# Altium schematic symbol library Test.SchLib: 139 symbols
Pins are listed as number, name and electrical type; pins without a type are passive.

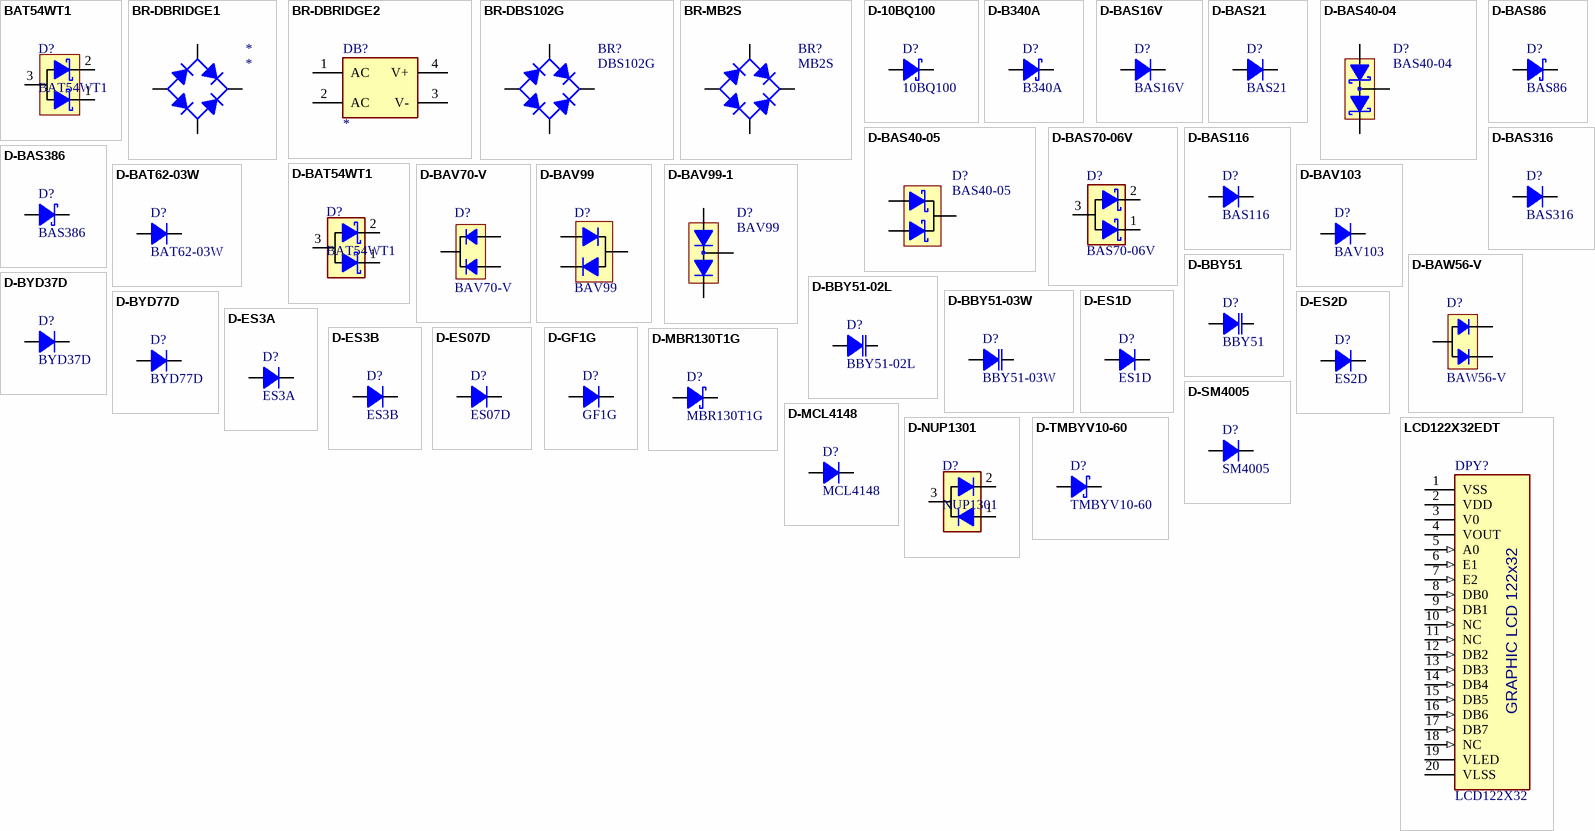
[diagram p0: symbols BAT54WT1 to LCD122X32EDT]

## BAT54WT1
designator D?
Schottky Barier Diodes; Manufacturer: On Semiconductor; Manufacturer No: BAT54WT1G; Sort: 410; Tech: SMDR; Package: SOT233; Price: 0
signal-integrity model Model Name (Model Description)
pins: 1 C1, 2 C2, 3 A1A2

## BR-DBRIDGE1
designator *
General purpose diode bridge; Sort: 430; Tech: SMDR; Price: 0
signal-integrity model Model Name (Model Description)
pins: 1 A, 2 C, 3 K, 4 C

## BR-DBRIDGE2
designator DB?
General purpose diode bridge; Sort: 430; Tech: SMDR; Price: 0
pins: 1 AC, 2 AC, 3 V-, 4 V+

## BR-DBS102G
designator BR?, comment DBS102G
Bridge rectifier 100V 1A SMD; Comment2: 100V 1A; Sort: 430; Tech: SMDR; Package: BRSMD; Price: 0
signal-integrity model Model Name (Model Description)
footprint BRDBS (Bridge rectifier DBS)
pins: 1 AC1, 2 AC2, 3 +, 4 -

## BR-MB2S
designator BR?, comment MB2S
Bridge rectifier 200V 0.5A SMD; Manufacturer: Vishay; Sort: 430; Tech: SMDR; Package: TO-269AA  MBS; Manufacturer No: MB2S; Comment2: 200V 0.5A; Price: 0
signal-integrity model Model Name (Model Description)
footprint BRTO269AA (Bridge rectifier MBS)
pins: 1 AC1, 2 AC2, 3 +, 4 -

## D-10BQ100
designator D?, comment 10BQ100
Schottky diode; Manufacturer: Vishay; Comment2: 1A 100V; Sort: 412; Tech: SMDR; Package: Diode SMB; Manufacturer No: 10BQ100; Price: 0
signal-integrity model Model Name (Model Description)
footprint DSMB-N (DIODE SMB normal)
pins: 1 C, 2 A

## D-B340A
designator D?, comment B340A
Schottky diode; Manufacturer: Vishay; Comment2: 3A 40V; Sort: 412; Tech: SMDR; Package: Diode SMA; Manufacturer No: B340A; Price: 0
signal-integrity model Model Name (Model Description)
footprint DSMA-N (DIODE SMA normal)
pins: 1 C, 2 A

## D-BAS16V
designator D?, comment BAS16V
General purpose diode; Manufacturer: Vishay; Manufacturer No: BAS16-V; Comment2: 100V 150mA; Sort: 410; Tech: SMDR; Package: SOT23; Price: 0
signal-integrity model Model Name (Model Description)
footprint SOT23-1
pins: 1 A, 3 C

## D-BAS21
designator D?, comment BAS21
General purpose diode; Comment2: 250V 200mA; Sort: 410; Tech: SMDR; Manufacturer No: BAS21; Package: SOT23; Price: 0
signal-integrity model Model Name (Model Description)
footprint SOT23-1
pins: 1 A, 3 C

## D-BAS40-04
designator D?, comment BAS40-04
Dual schottky diode A-CA-C; Manufacturer: Vishay; Comment2: 40V 200mA; Sort: 410; Tech: SMDR; Manufacturer No: BAS40-04; Package: SOT23; Price: 0
signal-integrity model Model Name (Model Description)
footprint SOT23-1
pins: 1 A1, 2 C2, 3 C1A2

## D-BAS40-05
designator D?, comment BAS40-05
Dual schottky diode A-CC-A; Manufacturer: Vishay; Comment2: 40V 200mA; Sort: 410; Tech: SMDR; Manufacturer No: BAS40-05; Package: SOT23; Price: 0
signal-integrity model Model Name (Model Description)
footprint SOT23-1
pins: 1 A1, 2 A2, 3 C1C2

## D-BAS70-06V
designator D?, comment BAS70-06V
Dual schottky diode C-AA-C; Manufacturer: Vishay; Manufacturer No: BAS70-06-V; Comment2: 70V  70mA; Sort: 412; Tech: SMDR; Package: SOT23; Price: 0
signal-integrity model Model Name (Model Description)
footprint SOT23-1
pins: 1 C1, 2 C2, 3 A1A2

## D-BAS86
designator D?, comment BAS86
Schottky diode; Comment2: 0.2A 50V; Sort: 410; Tech: SMDR; Package: Diode SOD80C; Manufacturer No: BAS86; Price: 0
signal-integrity model Model Name (Model Description)
footprint DSOD80-N (Diode SOD80)
pins: 1 C, 2 A

## D-BAS116
designator D?, comment BAS116
General purpose diode; Comment2: 80V 250mA 370mW; Sort: 410; Tech: SMDR; Manufacturer No: BAS116; Package: SOT23; Price: 0
signal-integrity model Model Name (Model Description)
footprint SOT23-1
pins: 1 A, 3 C

## D-BAS316
designator D?, comment BAS316
General purpose diode; Manufacturer: NXP; Comment2: 100V 150mA; Sort: 410; Tech: SMDR; Manufacturer No: BAS316; Package: SOD323; Price: 0
signal-integrity model Model Name (Model Description)
footprint SOD232 (SOD323 diode)
pins: 1 C, 2 A

## D-BAS386
designator D?, comment BAS386
Schottky diode uMelf; Manufacturer: Vishay; Comment2: 0.2A 50V; Sort: 410; Tech: SMDR; Package: Micro MELF; Manufacturer No: BAS386; Price: 0
signal-integrity model Model Name (Model Description)
footprint UMELF (micro melf  D1.2x2.0mm)
pins: 1 C, 2 A

## D-BAT54WT1
designator D?, comment BAT54WT1
Schottky Barier Dual Diodes C-AA-C; Manufacturer: On Semiconductor; Manufacturer No: BAT54WT1G; Sort: 410; Tech: SMDR; Package: SOT323; Price: 0
signal-integrity model Model Name (Model Description)
footprint SOT323N (SOT323 medium density (SC70))
pins: 1 C1, 2 C2, 3 A1A2

## D-BAT62-03W
designator D?, comment BAT62-03W
General purpose diode; Manufacturer: Infineon Technologies; Comment2: 40V 20mA; Sort: 410; Tech: SMDR; Manufacturer No: BAT62-03W; Package: SOT23; Price: 0
signal-integrity model Model Name (Model Description)
footprint SOD323 (SOD323 diode)
pins: 1 A, 3 C

## D-BAV70-V
designator D?, comment BAV70-V
Dual diode CC; Manufacturer: Vishay; Comment2: 70V  250mA; Sort: 410; Tech: SMDR; Manufacturer No: BAV70-V; Package: SOT23; Price: 0
signal-integrity model Model Name (Model Description)
footprint SOT23-1
pins: 1 C1, 2 C2, 3 A1A2

## D-BAV99
designator D?, comment BAV99
Dual diode C-AC-A; Manufacturer: Vishay; Comment2: 100V 150mA; Sort: 410; Tech: SMDR; Manufacturer No: BAV99; Package: SOT23; Price: 0
signal-integrity model Model Name (Model Description)
footprint SOT23-1
pins: 1 C1, 2 C2, 3 A1A2

## D-BAV99-1
designator D?, comment BAV99
Dual diode C-AC-A; Manufacturer: Vishay; Comment2: 100V 150mA; Sort: 410; Tech: SMDR; Manufacturer No: BAV99; Package: SOT23; Price: 0
signal-integrity model Model Name (Model Description)
footprint SOT23-1
pins: 1 A1, 2 C2, 3 C1A2

## D-BAV103
designator D?, comment BAV103
Switching diode; Comment2: 0.2A 200V 50ns; Sort: 410; Tech: SMDR; Package: Diode SOD80C; Manufacturer No: BAV103; Price: 0
signal-integrity model Model Name (Model Description)
footprint DSOD80-N (Diode SOD80)
pins: 1 C, 2 A

## D-BAW56-V
designator D?, comment BAW56-V
Dual diode CA; Manufacturer: Vishay; Comment2: 70V  250mA; Sort: 410; Tech: SMDR; Manufacturer No: BAW56-V; Package: SOT23; Price: 0
signal-integrity model Model Name (Model Description)
footprint SOT23-1
pins: 1 C1, 2 C2, 3 A1A2

## D-BBY51
designator D?, comment BBY51
Varicap diode; Manufacturer: Infineon, Digikey; Manufacturer No: BBY 51 E6327-ND; Comment2: 7V 20mA 3.7pF; Sort: 410; Tech: SMDR; Package: SOT23; Price: 0
signal-integrity model Model Name (Model Description)
footprint SOT23-1
pins: 1 A, 3 C

## D-BBY51-02L
designator D?, comment BBY51-02L
Varicap diode; Manufacturer: Infineon, Digikey; Manufacturer No: BBY 51-02L E6327; Comment2: 7V 20mA 3.7pF; Sort: 410; Tech: SMDR; Package: TSLP-2-1; Price: 0
signal-integrity model Model Name (Model Description)
footprint TSLP-2-1 (TSLP-2-1 diode)
pins: 1 A, 3 C

## D-BBY51-03W
designator D?, comment BBY51-03W
Varicap diode; Manufacturer: Infineon, Digikey; Manufacturer No: BBY 51-03W E6327-ND; Comment2: 7V 20mA 3.7pF; Sort: 410; Tech: SMDR; Package: SOD323; Price: 0
signal-integrity model Model Name (Model Description)
footprint SOD323 (SOD323 diode)
pins: 1 A, 3 C

## D-BYD37D
designator D?, comment BYD37D
Fast recovery diode; Manufacturer: NXP; Comment2: 1.5A 200V 250ns; Sort: 410; Tech: SMDR; Package: Diode SOD87; Manufacturer No: BYD37D; Price: 0
signal-integrity model Model Name (Model Description)
footprint SOD87 (MELF Diode, 2-Leads, Body 3,5x2,0mm)
pins: 1 C, 2 A

## D-BYD77D
designator D?, comment BYD77D
Fast recovery diode; Manufacturer: NXP; Comment2: 2A 200V 25ns; Sort: 410; Tech: SMDR; Package: Diode SOD87; Manufacturer No: BYD77D; Price: 0
signal-integrity model Model Name (Model Description)
footprint SOD87 (MELF Diode, 2-Leads, Body 3,5x2,0mm)
pins: 1 C, 2 A

## D-ES1D
designator D?, comment ES1D
Fast recovery diode; Manufacturer: Vishay; Comment2: 1A 200V 30ns; Sort: 410; Tech: SMDR; Package: Diode SMA; Manufacturer No: ES1D; Price: 0
signal-integrity model Model Name (Model Description)
footprint DSMA-N (DIODE SMA normal)
pins: 1 C, 2 A

## D-ES2D
designator D?, comment ES2D
Fast recovery diode; Manufacturer: Vishay; Comment2: 2A 200V 30ns; Sort: 410; Tech: SMDR; Package: Diode SMB; Manufacturer No: ES2D; Price: 0
signal-integrity model Model Name (Model Description)
footprint DSMB-N (DIODE SMB normal)
pins: 1 C, 2 A

## D-ES3A
designator D?, comment ES3A
Fast recovery diode; Manufacturer: Vishay; Manufacturer No: ES3A-E3/57T; Comment2: 3.0A 0.9V 20ns; Sort: 410; Tech: SMDR; Package: DO-214AB; Price: 0
signal-integrity model Model Name (Model Description)
footprint SOD87 (MELF Diode, 2-Leads, Body 3,5x2,0mm)
pins: 1 C, 2 A

## D-ES3B
designator D?, comment ES3B
Fast recovery diode; Manufacturer: Vishay; Manufacturer No: ES3B-E3/57T; Comment2: 3.0A 100V 20ns; Sort: 410; Tech: SMDR; Package: DO-214AB; Price: 0
signal-integrity model Model Name (Model Description)
footprint DSMC-N (DIODE SMC normal DO-214AB)
pins: 1 C, 2 A

## D-ES07D
designator D?, comment ES07D
Ultrafast recovery diode; Manufacturer: Vishay; Manufacturer No: ES07D-GS08; Comment2: 0.5A 200V 25ns; Sort: 410; Tech: SMDR; Package: Diode SMF; Price: 0
signal-integrity model Model Name (Model Description)
footprint DSMF-N (Diode SMF)
pins: 1 C, 2 A

## D-GF1G
designator D?, comment GF1G
General purpose diode 400V 1A; Manufacturer: Vishay, Farnell; Manufacturer No: GF1G, 9549595; Sort: 410; Tech: SMDR; Package: DO-214AC; Price: 0
signal-integrity model Model Name (Model Description)
footprint DO214BA (Diode SMA DO214BA)
pins: 1 C, 2 A

## D-MBR130T1G
designator D?, comment MBR130T1G
Schottky diode; Manufacturer: ON Semi; Comment2: 1A 30V; Sort: 412; Tech: SMDR; Package: Diode SOD123; Manufacturer No: MBR130T1G; Price: 0
signal-integrity model Model Name (Model Description)
footprint SOD123 (2-Leads, Body 1,6x2,7mm (max), IPC Medium Density)
pins: 1 C, 2 A

## D-MCL4148
designator D?, comment MCL4148
General purpose diode; Manufacturer: Vishay; Comment2: 100V 150mA; Sort: 410; Tech: SMDR; Manufacturer No: MCL4148; Package: Micro Melf; Price: 0
signal-integrity model Model Name (Model Description)
footprint UMELF (micro melf  D1.2x2.0mm)
pins: 1 C, 2 A

## D-NUP1301
designator D?, comment NUP1301
Low Cap. Diode Array for ESD Protection in a Single Data Line; Manufacturer: On Semiconductor; Manufacturer No: NUP1301ML3T1G; Comment2: 0.9 pF, 70V, 0.215A; Sort: 410; Tech: SMDR; Package: SOT23; Price: 0
signal-integrity model Model Name (Model Description)
footprint SOT23-1
pins: 1 C1, 2 C2, 3 A1A2

## D-SM4005
designator D?, comment SM4005
General purpose diode; Manufacturer: Diotec; Comment2: 600V 1A; Sort: 410; Tech: SMDR; Package: DO213AB; Manufacturer No: SM4005; Price: 0
signal-integrity model Model Name (Model Description)
footprint DO213AB (Diode MELF DO213AB)
pins: 1 C, 2 A

## D-TMBYV10-60
designator D?, comment TMBYV10-60
Schottky diode; Manufacturer: ST Microelectronics; Comment2: 1A 60V; Sort: 412; Tech: SMDR; Package: Diode SMA; Manufacturer No: TMBYV10-60; Price: 0
signal-integrity model Model Name (Model Description)
footprint D-MELF (Diode MELF glass)
pins: 1 C, 2 A

## LCD122X32EDT
designator DPY?, comment LCD122X32  (net tie)
LCD 122x32 EDT graphical; Sort: 710; Tech: SMDR; Price: 0
pins: 1 VSS (power), 2 VDD (power), 3 V0 (power), 4 VOUT (power), 5 A0 (in), 6 E1 (in), 7 E2 (in), 8 DB0 (in), 9 DB1 (in), 10 NC (in), 11 NC (in), 12 DB2 (in), 13 DB3 (in), 14 DB4 (in), 15 DB5 (in), 16 DB6 (in), 17 DB7 (in), 18 NC (in), 19 VLED (power), 20 VLSS (power)
text: GRAPHIC LCD 122x32

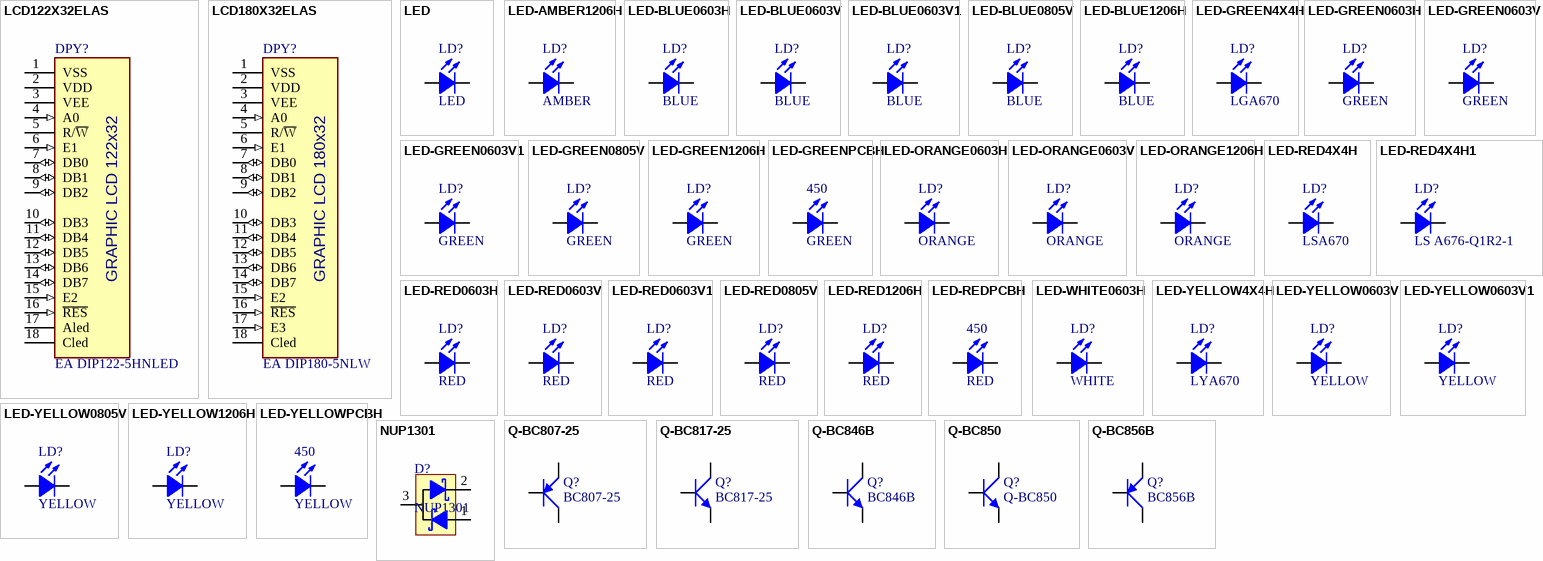
[diagram p1: symbols LCD122X32ELAS to Q-BC856B]

## LCD122X32ELAS
designator DPY?, comment EA DIP122-5HNLED
LCD 122x32 ElAss graphical DIP YGLED; Manufacturer: Electronic Assembly; Sort: 710; Tech: SMDR; Manufacturer No: EA DIP122-5HNLED; Price: 0
footprint LCD122X32ELAS1
footprint LCD122X32ELAS1NOPIN
pins: 1 VSS (power), 2 VDD (power), 3 VEE (power), 4 A0 (in), 5 R/~{W} (power), 6 E1 (in), 7 DB0 (io), 8 DB1 (io), 9 DB2 (io), 10 DB3 (io), 11 DB4 (io), 12 DB5 (io), 13 DB6 (io), 14 DB7 (io), 15 E2 (in), 16 ~{RES} (in), 17 Aled (power), 18 Cled (power)
text: GRAPHIC LCD 122x32

## LCD180X32ELAS
designator DPY?, comment EA DIP180-5NLW
LCD 180x32 ElAss graphical DIP YGLED; Manufacturer: Electronic Assembly; Sort: 710; Tech: SMDR; Manufacturer No: EA DIP180-5NLW; Price: 0
footprint LCD180X32ELAS1
pins: 1 VSS (power), 2 VDD (power), 3 VEE (power), 4 A0 (in), 5 R/~{W} (power), 6 E1 (in), 7 DB0 (io), 8 DB1 (io), 9 DB2 (io), 10 DB3 (io), 11 DB4 (io), 12 DB5 (io), 13 DB6 (io), 14 DB7 (io), 15 E2 (in), 16 ~{RES} (in), 17 E3 (in), 18 Cled (power)
text: GRAPHIC LCD 180x32

## LED
designator LD?
General purpose LED; Sort: 450; Tech: SMDR; Price: 0
footprint LED-0 (Typical INFRARED GaAs LED; 2 Leads)
simulation model LED0 (Diode)
pins: 1 C, 2 A

## LED-AMBER1206H
designator LD?, comment AMBER
LED amber HSMA side; Manufacturer: Agilent; Manufacturer No: HSMA-C110; Sort: 450; Tech: SMDR; Package: Led Chip 1206 Side; Price: 1.44
simulation model LED0 (Diode)
footprint LED1206HA (LED chip C110 3.2x1.0x1.5mm Side Amber)
pins: 1 C, 2 A

## LED-BLUE0603H
designator LD?, comment BLUE
LED blue 0603 side; Manufacturer: Avago, Farnell; Manufacturer No: HSMR-C120, 1058369; Sort: 450; Tech: SMDR; Package: Led Chip 0603 Side; Price: 0,6
simulation model LED0 (Diode)
footprint LED0603HB (LED chip 0603 1.6x1.0x0.6mm horizontal Blue)
pins: 1 C, 2 A

## LED-BLUE0603V
designator LD?, comment BLUE
LED blue HSMB vertical; Manufacturer: Avago, Farnell; Manufacturer No: HSMR-C190, 1652108; Comment2: 3.8V 20mA 6mcd 92mW; Sort: 450; Tech: SMDR; Package: Led Chip 0603; Price: 0.45
simulation model LED0 (Diode)
footprint LEDBLUEC190 (LED chip C190 1.6x0.8x0.8mm vertical)
pins: 1 C, 2 A

## LED-BLUE0603V1
designator LD?, comment BLUE
LED blue 0603; Manufacturer: Vishay, Farnell; Manufacturer No: TLMB1100, 1328305; Sort: 450; Tech: SMDR; Package: Led Chip 0603; Price: 0.7
simulation model LED0 (Diode)
footprint LED0603VB (LED chip 0603 1.6x0.8x0.6mm vertical Blue)
pins: 1 C, 2 A

## LED-BLUE0805V
designator LD?, comment BLUE
LED blue 0805; Sort: 450; Tech: SMDR; Package: 0805; Price: 0
simulation model LED0 (Diode)
footprint LED0805VB (LED 0805 2X1.25mm Blue)
pins: 1 C, 2 A

## LED-BLUE1206H
designator LD?, comment BLUE
LED blue HSMR side; Manufacturer: Agilent; Manufacturer No: HSMR-C110; Sort: 450; Tech: SMDR; Package: Led Chip 1206 Side; Price: 1.44
simulation model LED0 (Diode)
footprint LED1206HB (LED chip C110 3.2x1.0x1.5mm Side Blue)
pins: 1 C, 2 A

## LED-GREEN4X4H
designator LD?, comment LGA670
LED SIDELED 4x4; Manufacturer: Osram; Manufacturer No: LG A670-K1L2-1; Sort: 450; Tech: SMDR; Package: SIDELED 4X4; Price: 0
footprint LED4X4H (Sideled 4x4mm horizontal SMD)
simulation model LED0 (Diode)
pins: 1 C, 2 A

## LED-GREEN0603H
designator LD?, comment GREEN
LED green 0603 side; Manufacturer: Avago, Farnell; Manufacturer No: HSME-C120, 1058360; Sort: 450; Tech: SMDR; Package: Led Chip 0603 Side; Price: 0,22
simulation model LED0 (Diode)
footprint LED0603HG (LED chip 0603 1.6x1.0x0.6mm horizontal Green)
pins: 1 C, 2 A

## LED-GREEN0603V
designator LD?, comment GREEN
LED green HSMG vertical; Manufacturer: Avago, Farnell; Manufacturer No: HSMG-C190, 8554609; Comment2: 2.6V 20mA 15mcd 52mW; Sort: 450; Tech: SMDR; Package: Led Chip 0603; Price: 0.3
simulation model LED0 (Diode)
footprint LEDGREENC190 (LED chip C190 1.6x0.8x0.8mm vertical)
pins: 1 C, 2 A

## LED-GREEN0603V1
designator LD?, comment GREEN
LED green 0603; Manufacturer: Vishay, Farnell; Manufacturer No: TLMP1100, 1328306; Sort: 450; Tech: SMDR; Package: Led Chip 0603; Price: 0.7
simulation model LED0 (Diode)
footprint LED0603VG (LED chip 0603 1.6x0.8x0.6mm vertical Green)
pins: 1 C, 2 A

## LED-GREEN0805V
designator LD?, comment GREEN
LED green 0805; Sort: 450; Tech: SMDR; Package: 0805; Price: 0
simulation model LED0 (Diode)
footprint LED0805VG (LED 0805 2X1.25mm Green)
pins: 1 C, 2 A

## LED-GREEN1206H
designator LD?, comment GREEN
LED green HSMQ side; Manufacturer: Agilent; Manufacturer No: HSMQ-C110; Sort: 450; Tech: SMDR; Package: Led Chip 1206 Side; Price: 1.44
simulation model LED0 (Diode)
footprint LED1206HG (LED chip C110 3.2x1.0x1.5mm Side Green)
pins: 1 C, 2 A

## LED-GREENPCBH
designator 450, comment GREEN
Right angle LED indicator; Manufacturer: Kingbright; Manufacturer No: L-710A8CB/1GD; Sort: 450; Tech: SMDR; Price: 0
simulation model LED0 (Diode)
footprint LEDPCBHKB (Right angle LED indicator 4.6x6.35x7.3mm)
pins: 1 C, 2 A

## LED-ORANGE0603H
designator LD?, comment ORANGE
LED orange 0603 side; Manufacturer: Avago, Farnell; Manufacturer No: HSML-C120, 1058367; Sort: 450; Tech: SMDR; Package: Led Chip 0603 Side; Price: 0,13
simulation model LED0 (Diode)
footprint LED0603HO (LED chip 0603 1.6x1.0x0.6mm horizontal Orange)
pins: 1 C, 2 A

## LED-ORANGE0603V
designator LD?, comment ORANGE
LED orange 0603 vertical; Manufacturer: Avago, Farnell; Manufacturer No: HSMD-C190, 8554552; Sort: 450; Tech: SMDR; Package: Led Chip 0603 Vertical; Price: 0,08
simulation model LED0 (Diode)
footprint LEDORANGEC190 (LED chip C190 1.6x0.8x0.8mm vertical orange)
pins: 1 C, 2 A

## LED-ORANGE1206H
designator LD?, comment ORANGE
LED orange HSMD side; Manufacturer: Agilent; Manufacturer No: HSMD-C110; Sort: 450; Tech: SMDR; Package: Led Chip 1206 Side; Price: 1.44
simulation model LED0 (Diode)
footprint LED1206HO (LED chip C110 3.2x1.0x1.5mm Side Orange)
pins: 1 C, 2 A

## LED-RED4X4H
designator LD?, comment LSA670
LED SIDELED 4x4; Manufacturer: Osram; Manufacturer No: LS A670-J1K2-1; Sort: 450; Tech: SMDR; Package: SIDELED 4X4; Price: 0
footprint LED4X4H (Sideled 4x4mm horizontal SMD)
simulation model LED0 (Diode)
pins: 1 C, 2 A

## LED-RED4X4H1
designator LD?, comment LS A676-Q1R2-1
LED SIDELED 4x4; Manufacturer: Osram; Manufacturer No: Q65110A2259; Comment2: 30mA, 80mW; Sort: 450; Tech: SMDR; Package: SIDELED 4X4; Price: 0
footprint LED4X4H (Sideled 4x4mm horizontal SMD)
simulation model LED0 (Diode)
pins: 1 C, 2 A

## LED-RED0603H
designator LD?, comment RED
LED red 0603 side; Manufacturer: Avago, Farnell; Manufacturer No: HSMC-C120, 1058357; Sort: 450; Tech: SMDR; Package: Led Chip 0603 Side; Price: 0,22
simulation model LED0 (Diode)
footprint LED0603HR (LED chip 0603 1.6x1.0x0.6mm horizontal Red)
pins: 1 C, 2 A

## LED-RED0603V
designator LD?, comment RED
LED red HSMC vertical; Manufacturer: Avago, Farnell; Manufacturer No: HSMC-C190, 8554510; Comment2: 2.4V 25mA 90mcd 60mW; Sort: 450; Tech: SMDR; Package: Led Chip 0603; Price: 0.3
simulation model LED0 (Diode)
footprint LEDREDC190 (LED chip C190 1.6x0.8x0.8mm vertical)
pins: 1 C, 2 A

## LED-RED0603V1
designator LD?, comment RED
LED red 0603; Manufacturer: Vishay, Farnell; Manufacturer No: TLMS1100, 1328309; Sort: 450; Tech: SMDR; Package: Led Chip 0603; Price: 0.7
simulation model LED0 (Diode)
footprint LED0603VR (LED chip 0603 1.6x0.8x0.6mm vertical Red)
pins: 1 C, 2 A

## LED-RED0805V
designator LD?, comment RED
LED red 0805; Sort: 450; Tech: SMDR; Package: 0805; Price: 0
simulation model LED0 (Diode)
footprint LED0805VR (LED 0805 2X1.25mm Red)
pins: 1 C, 2 A

## LED-RED1206H
designator LD?, comment RED
LED red HSMC side; Manufacturer: Agilent; Manufacturer No: HSMC-C110; Sort: 450; Tech: SMDR; Package: Led Chip 1206 Side; Price: 1.44
simulation model LED0 (Diode)
footprint LED1206HR (LED chip C110 3.2x1.0x1.5mm Side Red)
pins: 1 C, 2 A

## LED-REDPCBH
designator 450, comment RED
Right angle LED indicator; Manufacturer: Kingbright; Manufacturer No: L-710A8CB/1ID; Sort: 450; Tech: SMDR; Price: 0
simulation model LED0 (Diode)
footprint LEDPCBHKB (Right angle LED indicator 4.6x6.35x7.3mm)
pins: 1 C, 2 A

## LED-WHITE0603H
designator LD?, comment WHITE
LED white 0603 side; Manufacturer: Avago, Farnell; Manufacturer No: HSMW-C120, 1058374; Sort: 450; Tech: SMDR; Package: Led Chip 0603 Side; Price: 1,43
simulation model LED0 (Diode)
footprint LED0603HW (LED chip 0603 1.6x1.0x0.6mm horizontal White)
pins: 1 C, 2 A

## LED-YELLOW4X4H
designator LD?, comment LYA670
LED SIDELED 4x4; Manufacturer: Osram; Manufacturer No: LY A670-J1K2-26; Sort: 450; Tech: SMDR; Package: SIDELED 4X4; Price: 0
footprint LED4X4H (Sideled 4x4mm horizontal SMD)
simulation model LED0 (Diode)
pins: 1 C, 2 A

## LED-YELLOW0603V
designator LD?, comment YELLOW
LED yellow HSMY vertical; Manufacturer: Avago, Farnell; Manufacturer No: HSMY-C190, 8554781; Comment2: 2.6V 20mA 8mcd 52mW; Sort: 450; Tech: SMDR; Package: Led Chip 0603; Price: 0.4
simulation model LED0 (Diode)
footprint LEDYELLOWC190 (LED chip C190 1.6x0.8x0.8mm vertical)
pins: 1 C, 2 A

## LED-YELLOW0603V1
designator LD?, comment YELLOW
LED yellow 0603; Manufacturer: Vishay, Farnell; Manufacturer No: TLMY1000, 1328310; Sort: 450; Tech: SMDR; Package: Led Chip 0603; Price: 0.7
simulation model LED0 (Diode)
footprint LED0603VY (LED chip 0603 1.6x0.8x0.6mm vertical Yellow)
pins: 1 C, 2 A

## LED-YELLOW0805V
designator LD?, comment YELLOW
LED yellow 0805; Sort: 450; Tech: SMDR; Package: 0805; Price: 0
simulation model LED0 (Diode)
footprint LED0805VY (LED 0805 2X1.25mm Yellow)
pins: 1 C, 2 A

## LED-YELLOW1206H
designator LD?, comment YELLOW
LED yellow HSMY side; Manufacturer: Agilent; Manufacturer No: HSMY-C110; Sort: 450; Tech: SMDR; Package: Led Chip 1206 Side; Price: 1.44
simulation model LED0 (Diode)
footprint LED1206HY (LED chip C110 3.2x1.0x1.5mm Side Yellow)
pins: 1 C, 2 A

## LED-YELLOWPCBH
designator 450, comment YELLOW
Right angle LED indicator; Manufacturer: Kingbright; Manufacturer No: L-710A8CB/1YD; Sort: 450; Tech: SMDR; Price: 0
simulation model LED0 (Diode)
footprint LEDPCBHKB (Right angle LED indicator 4.6x6.35x7.3mm)
pins: 1 C, 2 A

## NUP1301
designator D?
Low Cap. Diode Array for ESD Protection in a Single Data Line; Manufacturer: On Semiconductor; Manufacturer No: NUP1301ML3T1G; Comment2: 0.9 pF, 8.0 kV (Contact) 15kV (Air); Sort: 410; Tech: SMDR; Package: SOT23; Price: 0
signal-integrity model Model Name (Model Description)
footprint SOT23-1
pins: 1 C1, 2 C2, 3 A1A2

## Q-BC807-25
designator Q?, comment BC807-25
PNP transistor; Comment2: 45V, 0.8A; Sort: 440; Tech: SMDR; Package: SOT23; Price: 0
footprint SOT23-1
pins: 1 B, 2 E, 3 C

## Q-BC817-25
designator Q?, comment BC817-25
NPN transistor; Comment2: 45V 0.8A; Sort: 440; Tech: SMDR; Package: SOT23; Price: 0
footprint SOT23-1
pins: 1 B, 2 E, 3 C

## Q-BC846B
designator Q?, comment BC846B
NPN transistor; Comment2: 80V 0.1A 0.3W; Sort: 440; Tech: SMDR; Package: SOT23; Manufacturer No: BC846B; Price: 0
footprint SOT23-1
pins: 1 B, 2 E, 3 C

## Q-BC850
designator Q?
NPN transistor; Manufacturer No: BC850; Comment2: 45V 0.1A 0.3W; Sort: 440; Tech: SMDR; Package: SOT23; Price: 0
footprint SOT23-1
pins: 1 B, 2 E, 3 C

## Q-BC856B
designator Q?, comment BC856B
PNP transistor; Comment2: 80V 0.1A 0.3W; Sort: 440; Tech: SMDR; Package: SOT23; Manufacturer No: BC856B; Price: 0
footprint SOT23-1
pins: 1 B, 2 E, 3 C

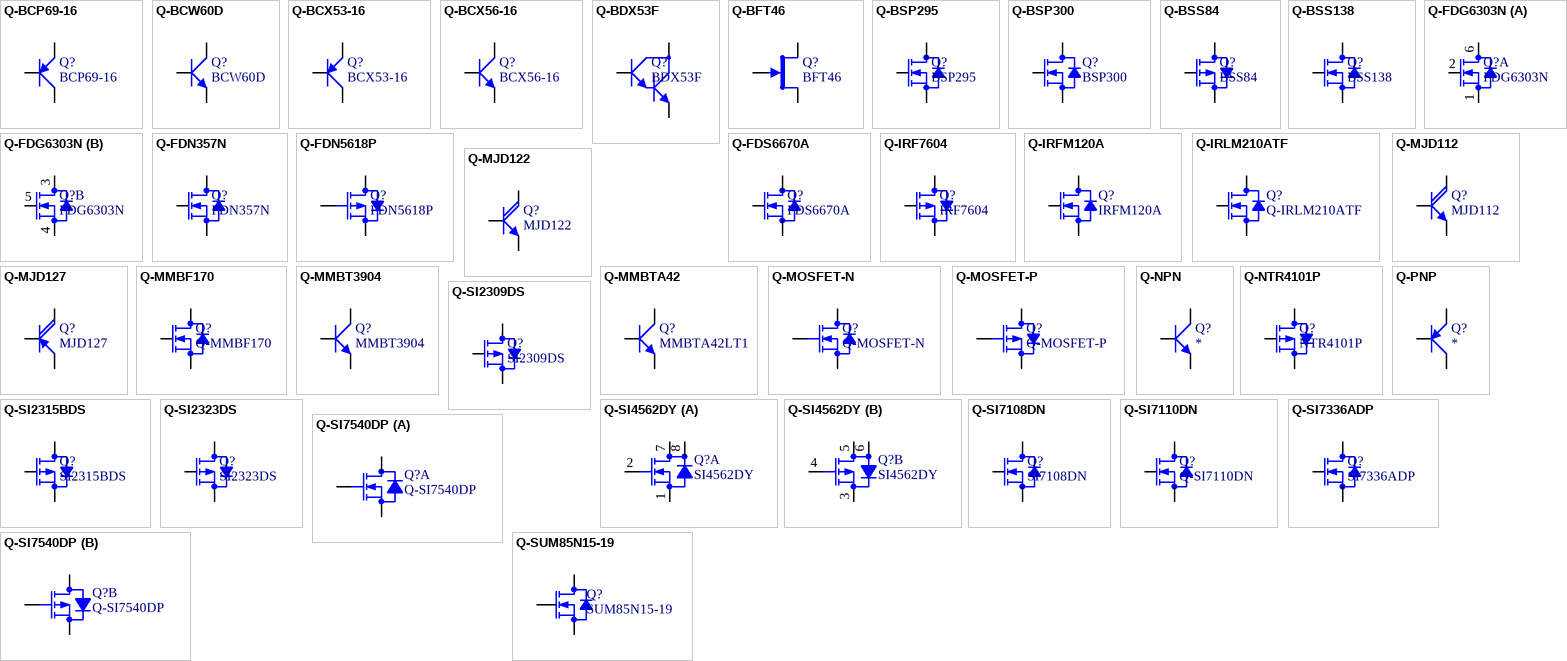
[diagram p2: symbols Q-BCP69-16 to Q-SUM85N15-19]

## Q-BCP69-16
designator Q?, comment BCP69-16
PNP medium power transistor BCP69; Manufacturer: NXP, Farnell; Manufacturer No: 9340 094 30115, 8734895; Comment2: 20V, 1A, 1W; Sort: 440; Tech: SMDR; Package: SOT223; Price: 0
footprint SOT223
pins: 1 B, 2 C, 3 E, 4 C hidden, 4 C

## Q-BCW60D
designator Q?, comment BCW60D
NPN general purpose transistor; Comment2: 32V 0.1A; Sort: 440; Tech: SMDR; Package: SOT23; Manufacturer No: BCW60D; Price: 0
footprint SOT23-1
pins: 1 B, 2 E, 3 C

## Q-BCX53-16
designator Q?, comment BCX53-16
PNP transistor; Comment2: 80V 1A 1.3W; Sort: 440; Tech: SMDR; Package: SOT89; Manufacturer No: BCX53-16; Price: 0
footprint SOT89-1 (SOT-89; Body 4.6 x 4.25 mm, inc. leads (LxW max))
pins: 1 B, 2 C, 3 E

## Q-BCX56-16
designator Q?, comment BCX56-16
NPN transistor; Comment2: 80V 1A 1.3W; Sort: 440; Tech: SMDR; Package: SOT89; Manufacturer No: BCX56-16; Price: 0
footprint SOT89-1 (SOT-89; Body 4.6 x 4.25 mm, inc. leads (LxW max))
pins: 1 B, 2 C, 3 E

## Q-BDX53F
designator Q?, comment BDX53F
NPN high voltage darlington transistor; Manufacturer: STM; Comment2: 80V 8A; Sort: 440; Tech: THDW; Package: TO220; Manufacturer No: BDX53F; Price: 0
footprint TO220H (TO-220 horizontal)
pins: 1 B, 2 C, 3 E

## Q-BFT46
designator Q?, comment BFT46
N-channel silicon FET; Manufacturer: NXP, Farnell; Manufacturer No: BFT46, 3000928; Comment2: 0.0015A 25V 0.25W; Sort: 440; Tech: SMDR; Package: SOT23; Price: 0
footprint SOT23-1
pins: 1 S, 2 D, 3 G

## Q-BSP295
designator Q?, comment BSP295
N-Channel MOSFET 60V 1.8A; Manufacturer: Infineon, Farnell; Manufacturer No: BSP295, 1214268; Comment2: 60V, 1.8A, 0.3R, 1.8W; Sort: 442; Tech: SMDR; Package: SOT223; Price: 0.66
simulation model NMOS (MOSFET-N)
footprint SOT223
pins: 1 G, 2 D, 3 S, 4 D

## Q-BSP300
designator Q?, comment BSP300
N-Channel MOSFET; Manufacturer: Infineon; Comment2: 800Vds 0.19A 20R 2.9154Uth 2W; Sort: 442; Tech: SMDR; Package: SOT223; Manufacturer No: BSP300; Price: 0
simulation model NMOS (MOSFET-N)
footprint SOT223
pins: 1 G, 2 D, 3 S, 4 D

## Q-BSS84
designator Q?, comment BSS84
P-Channel MOSFET; Manufacturer: NXP; Comment2: 50V 0.13A 10R; Sort: 442; Tech: SMDR; Package: SOT23; Manufacturer No: BSS84; Price: 0
simulation model PMOS (MOSFET-P)
footprint SOT23-1
pins: 1 G, 2 S, 3 D

## Q-BSS138
designator Q?, comment BSS138
N-Channel MOSFET; Manufacturer: Fairchild; Comment2: 50V 0.22A 6R; Sort: 442; Tech: SMDR; Package: SOT23; Manufacturer No: BSS138; Price: 0.25
simulation model NMOS (MOSFET-N)
footprint SOT23-1
pins: 1 G, 2 S, 3 D

## Q-FDG6303N
designator Q?, comment FDG6303N
Dual N-Channel MOSFET with gate zener diode; Manufacturer: Fairchild; Comment2: 25V 0.5A 0.45R Ugs<1.5V; Sort: 442; Tech: SMDR; Package: SC70-6; Manufacturer No: FDG6303N; Price: 0.14
simulation model NMOS (MOSFET-N)
footprint SC70-6 (6-Leads, Body 2,0x2,1mm (max), Pitch 0,65mm, IPC Medium Density)
part A pins: 1 S1, 2 G1, 6 D
part B pins: 3 D2, 4 S2, 5 G2

## Q-FDN357N
designator Q?, comment FDN357N
N-Channel MOSFET 30V 2.5A; Manufacturer: Fairchild, Farnell; Manufacturer No: FDN357N, 9845364; Comment2: 30V, 2.5A, 0.08R, 0.5W; Sort: 442; Tech: SMDR; Package: SOT23; Price: 0.25
simulation model NMOS (MOSFET-N)
footprint SOT23-1
pins: 1 G, 2 S, 3 D

## Q-FDN5618P
designator Q?, comment FDN5618P
P-Channel MOSFET; Manufacturer: Fairchild, Farnell; Manufacturer No: FDN5618P, 9846344; Comment2: 60V 1.25A; Sort: 442; Tech: SMDR; Package: SOT23; Price: 0
simulation model PMOS (MOSFET-P)
footprint SOT23-1
pins: 1 G, 2 S, 3 D

## Q-FDS6670A
designator Q?, comment FDS6670A
N-Channel MOSFET 30V 13A; Manufacturer: Fairchild, Farnell; Manufacturer No: FDS6670A, 1095016; Comment2: 30V, 13A, 0.008R, 2.5W; Sort: 442; Tech: SMDR; Package: SOIC8
simulation model NMOS (MOSFET-N)
footprint SOIC8-1
pins: 1 S, 2 S, 3 S, 4 G, 5 D, 6 D, 7 D, 8 D

## Q-IRF7604
designator Q?, comment IRF7604
P-Channel MOSFET; Manufacturer: IRF; Comment2: 20V  3A 1.8V Ugs Rds 0.09R; Sort: 442; Tech: SMDR; Package: TSSOP8; Manufacturer No: IRF7604; Price: 0
simulation model PMOS (MOSFET-P)
footprint TSSOP8 (TSSOP8 3x3mm R0.65mm)
pins: 1 S, 2 S, 3 S, 4 G, 5 D, 6 D, 7 D, 8 D

## Q-IRFM120A
designator Q?, comment IRFM120A
N-Channel MOSFET; Manufacturer No: IRLM210ATF; Comment2: 100V 2.3A OR2; Sort: 442; Tech: SMDR; Package: SOT223; Price: 0
simulation model NMOS (MOSFET-N)
footprint SOT223
pins: 1 G, 2 D, 3 S, 4 D

## Q-IRLM210ATF
designator Q?
N-Channel MOSFET; Comment2: 200V 0.77A 1.5R; Sort: 442; Tech: SMDR; Package: SOT223; Manufacturer No: IRLM210ATF; Price: 0
simulation model NMOS (MOSFET-N)
footprint SOT223
pins: 1 G, 2 D, 3 S, 4 D

## Q-MJD112
designator Q?, comment MJD112
NPN darlington power transistor; Comment2: 100V 2A; Sort: 440; Tech: SMDR; Package: DPAK; Manufacturer No: MJD112; Price: 0
footprint DPAK
pins: 1 B, 2 E, 3 C

## Q-MJD122
designator Q?, comment MJD122
NPN darlington power transistor 8A; Comment2: 100V 8A; Sort: 440; Tech: SMDR; Package: DPAK; Manufacturer No: MJD122; Price: 0
footprint DPAK
pins: 1 B, 2 E, 3 C

## Q-MJD127
designator Q?, comment MJD127
PNP darlington power transistor 8A; Comment2: 100V 8A; Sort: 440; Tech: SMDR; Package: DPAK; Manufacturer No: MJD127; Price: 0
footprint DPAK
pins: 1 B, 2 E, 3 C

## Q-MMBF170
designator Q?
N-Channel MOSFET; Comment2: 60V, 0.5A, 0.3W; Sort: 442; Tech: SMDR; Package: SOT23; Manufacturer No: MMBF170; Price: 0
simulation model NMOS (MOSFET-N)
footprint SOT23-1
pins: 1 G, 2 S, 3 D

## Q-MMBT3904
designator Q?, comment MMBT3904
NPN transistor; Manufacturer: Fairchild; Comment2: 40V 0.2A 0.35W; Sort: 440; Tech: SMDR; Package: SOT23; Manufacturer No: MMBT3904; Price: 0
footprint SOT23-1
pins: 1 B, 2 E, 3 C

## Q-MMBTA42
designator Q?, comment MMBTA42LT1
NPN transistor; Comment2: 300V 0.5A 0.35W; Sort: 440; Tech: SMDR; Package: SOT23; Manufacturer No: MMBTA42LT1; Price: 0
footprint SOT23-1
pins: 1 B, 2 E, 3 C

## Q-MOSFET-N
designator Q?
N-Channel MOSFET; Sort: 442; Tech: SMDR; Price: 0
simulation model NMOS (MOSFET-N)
pins: 1 D, 2 G, 3 S

## Q-MOSFET-P
designator Q?
P-Channel MOSFET; Sort: 442; Tech: SMDR; Price: 0
simulation model PMOS (MOSFET-P)
pins: 1 G, 2 S, 3 D

## Q-NPN
designator Q?
NPN general purpose transistor; Sort: 440; Tech: SMDR; Price: 0
pins: 1 B, 2 E, 3 C

## Q-NTR4101P
designator Q?, comment NTR4101P
P-Channel MOSFET; Manufacturer: ON Semiconductor; Manufacturer No: NTR4101PT1G; Comment2: 20V  2.4A 1.8V Ugs; Sort: 442; Tech: SMDR; Package: SOT23; Price: 0
simulation model PMOS (MOSFET-P)
footprint SOT23-1
pins: 1 G, 2 S, 3 D

## Q-PNP
designator Q?
PNP general purpose transistor; Sort: 440; Tech: SMDR; Price: 0
pins: 1 B, 2 E, 3 C

## Q-SI2309DS
designator Q?, comment SI2309DS
P-Channel MOSFET; Manufacturer: Vishay; Comment2: -60V 0.55R 1A; Sort: 442; Tech: SMDR; Package: SOT23; Manufacturer No: SI2309DS; Price: 0
simulation model PMOS (MOSFET-P)
footprint SOT23-1
pins: 1 G, 2 S, 3 D

## Q-SI2315BDS
designator Q?, comment SI2315BDS
P-Channel MOSFET; Manufacturer: Vishay; Comment2: 12V 2.7A 0.1R@1.8Vgs; Sort: 442; Tech: SMDR; Package: SOT23; Manufacturer No: Si2315BDS; Price: 0
simulation model PMOS (MOSFET-P)
footprint SOT23-1
pins: 1 G, 2 S, 3 D

## Q-SI2323DS
designator Q?, comment SI2323DS
P-Channel MOSFET; Manufacturer: Vishay; Comment2: -20V 0.05R 4A; Sort: 442; Tech: SMDR; Package: SOT23; Manufacturer No: Si2323DS; Price: 0
simulation model PMOS (MOSFET-P)
footprint SOT23-1
pins: 1 G, 2 S, 3 D

## Q-SI4562DY
designator Q?, comment SI4562DY
PN Channel MOSFET 20V 5A  SOIC8; Manufacturer: Vishay; Manufacturer No: Si4562DY-T1-E3; Sort: 442; Tech: SMDR; Package: SOIC8; Price: 0
simulation model NMOS (MOSFET-N)
footprint SOIC8-1
part A pins: 1 S1, 2 G1, 7 D1, 8 D1
part B pins: 3 S2, 4 G2, 5 D2, 6 D2

## Q-SI7108DN
designator Q?, comment SI7108DN
N-Channel MOSFET 20V 20A 5mR; Manufacturer: Vishay; Sort: 442; Tech: SMDR; Package: Power pack 1212-8; Manufacturer No: SI7108DN; Comment2: 20V 20A 5mR; Price: 0
simulation model NMOS (MOSFET-N)
footprint PPAK1212-8 (QFN, 8-Leads, Body 3,2x3,2mm (max), Pitch 0,65mm, IPC Medium Density)
pins: 1 S, 2 S, 3 S, 4 G, 5 D, 6 D, 7 D, 8 D, 9

## Q-SI7110DN
designator Q?
N-Channel MOSFET 20V 17A 5.3mR; Manufacturer: Vishay; Sort: 442; Tech: SMDR; Package: Power pack 1212-8; Manufacturer No: SI7110DN; Comment2: 20V 17A 5.3mR; Price: 0
simulation model NMOS (MOSFET-N)
footprint PPAK1212-8 (QFN, 8-Leads, Body 3,2x3,2mm (max), Pitch 0,65mm, IPC Medium Density)
pins: 1 S, 2 S hidden, 3 S hidden, 4 G, 5 D, 6 D hidden, 7 D hidden, 8 D, 9 (power) hidden

## Q-SI7336ADP
designator Q?, comment SI7336ADP
N-Channel MOSFET 20V 20A 5.5mR; Manufacturer: Vishay; Manufacturer No: SI7336ADP-T1-E3; Sort: 442; Tech: SMDR; Package: Power pack SOIC8; Comment2: 20V 20A 5.5mR; Price: 0
simulation model NMOS (MOSFET-N)
footprint SOIC8PP-3 (Power Pak SO8)
pins: 1 S, 2 S, 3 S, 4 G, 5 D, 6 D, 7 D, 8 D, 9

## Q-SI7540DP
designator Q?
PN Channel MOSFET 12V 8.9A; Manufacturer: Vishay; Manufacturer No: Si7540DP-T1-E3; Sort: 442; Tech: SMDR; Package: PowerPak SO8; Price: 0
simulation model NMOS (MOSFET-N)
footprint SOIC8PP-2 (Power Pak SO8)
part A pins: 1 S1, 2 G1, 7 D1 hidden, 8 D2
part B pins: 3 S2, 4 G2, 5 D2, 6 D2 hidden

## Q-SUM85N15-19
designator Q?, comment SUM85N15-19
N-Channel MOSFET; Manufacturer: Vishay; Sort: 442; Tech: SMDR; Package: DPAK; Manufacturer No: SUM85N15-19; Price: 0
simulation model NMOS (MOSFET-N)
footprint TO263 (TO263 3pin D2PAK)
pins: 1 G, 2 D, 3 S

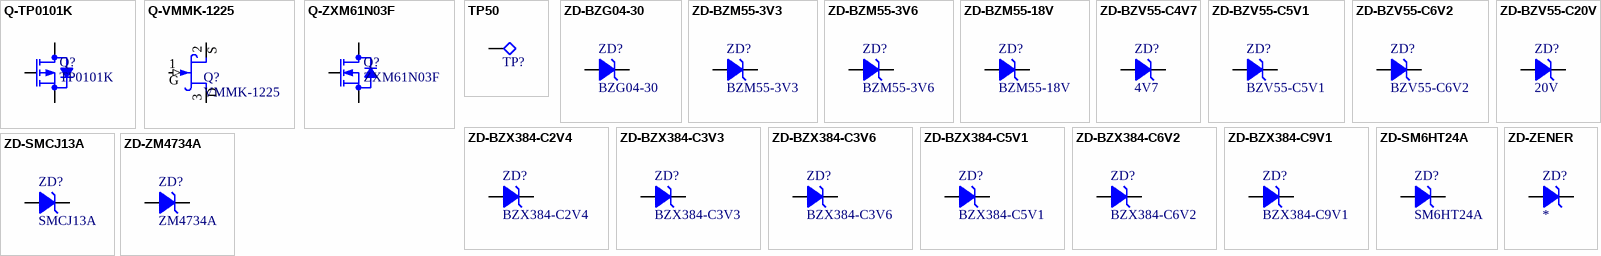
[diagram p3: symbols Q-TP0101K to ZD-ZM4734A]

## Q-TP0101K
designator Q?, comment TP0101K
P-Channel MOSFET, Low treshold; Manufacturer: Vishay; Manufacturer No: TP0101K-T1-GE3; Comment2: -20V 0.65R 0.58A; Sort: 442; Tech: SMDR; Package: SOT23; Price: 0
simulation model PMOS (MOSFET-P)
footprint SOT23-1
pins: 1 G, 2 S, 3 D

## Q-VMMK-1225
designator Q?, comment VMMK-1225
0.5 to 26 GHz Low Noise E-PHEMT; Manufacturer: Avago Technologies, Farnell; Manufacturer No: VMMK-1225-BLKG, 1650250; Comment2: 5V 11dB/12GHz 50mA; Sort: 442; Tech: SMDR; Package: GaAsCap 0402; Price: 0
footprint GaAsCap 0402
pins: 1 G (in), 2 S, 3 D

## Q-ZXM61N03F
designator Q?, comment ZXM61N03F
N-Channel MOSFET 30V 1.4A; Manufacturer: Zetex, Farnell; Manufacturer No: ZXM61N03F, 9525289; Comment2: 30V, 1.4A, 0.22R, 0.6W; Sort: 442; Tech: SMDR; Package: SOT23; Price: 0.25
simulation model NMOS (MOSFET-N)
footprint SOT23-1
pins: 1 G, 2 S, 3 D

## TP50
designator TP?
Test Point 50mils; Manufacturer: Vishay; Manufacturer No: ES07D; Sort: 6XX; Tech: SMDR; Price: 0
signal-integrity model Model Name (Model Description)
footprint TP50 (Test point 50mils)
pins: 1

## ZD-BZG04-30
designator ZD?, comment BZG04-30
Zener diode with surge current specification; Manufacturer: Vishay; Comment2: 30V 5% 1.25/3W; Sort: 420; Tech: SMDR; Package: SOD80; Manufacturer No: BZG04-30; Price: 0
footprint DSMA-N (DIODE SMA normal)
pins: 1 C, 2 A

## ZD-BZM55-3V3
designator ZD?, comment BZM55-3V3
Zener diode 500mW uMELF; Comment2: 5% 500mW; Sort: 420; Tech: SMDR; Package: Micro MELF; Manufacturer No: BZM55-3V3; Price: 0
footprint UMELF (micro melf  D1.2x2.0mm)
pins: 1 C, 2 A

## ZD-BZM55-3V6
designator ZD?, comment BZM55-3V6
Zener diode 500mW uMELF; Comment2: 5% 500mW; Sort: 420; Tech: SMDR; Package: Micro MELF; Manufacturer No: BZM55-3V6; Price: 0
footprint UMELF (micro melf  D1.2x2.0mm)
pins: 1 C, 2 A

## ZD-BZM55-18V
designator ZD?, comment BZM55-18V
Zener diode 500mW uMELF; Manufacturer: Vishay; Comment2: 5% 500mW; Sort: 420; Tech: SMDR; Package: Micro MELF; Manufacturer No: BZM55-18V; Price: 0
footprint UMELF (micro melf  D1.2x2.0mm)
pins: 1 C, 2 A

## ZD-BZV55-C4V7
designator ZD?, comment 4V7
Zener diode 500mW SOD80C; Manufacturer: NXP; Manufacturer No: BZV55-C4V7; Comment2: 5% 500mW; Sort: 420; Tech: SMDR; Package: SOD80; Price: 0
footprint DSOD80-N (Diode SOD80)
pins: 1 C, 2 A

## ZD-BZV55-C5V1
designator ZD?, comment BZV55-C5V1
Zener diode 500mW SOD80C; Manufacturer: NXP; Comment2: 5% 500mW; Sort: 420; Tech: SMDR; Package: SOD80; Manufacturer No: BZV55-C5V1; Price: 0
footprint DSOD80-N (Diode SOD80)
footprint DSOD80W (Diode SOD80 wavw solder)
pins: 1 C, 2 A

## ZD-BZV55-C6V2
designator ZD?, comment BZV55-C6V2
Zener diode 500mW SOD80C; Manufacturer: NXP; Comment2: 5% 500mW; Sort: 420; Tech: SMDR; Package: SOD80; Manufacturer No: BZV55-C6V2; Price: 0
footprint DSOD80-N (Diode SOD80)
pins: 1 C, 2 A

## ZD-BZV55-C20V
designator ZD?, comment 20V
Zener diode 500mW SOD80C; Manufacturer: NXP; Manufacturer No: BZV55-C20V; Comment2: 5% 500mW; Sort: 420; Tech: SMDR; Package: SOD80; Price: 0
footprint DSOD80-N (Diode SOD80)
pins: 1 C, 2 A

## ZD-BZX384-C2V4
designator ZD?, comment BZX384-C2V4
Zener diode 300mW SOD80C; Manufacturer: NXP; Manufacturer No: BZX384-B2V4; Comment2: 5% 300mW; Sort: 420; Tech: SMDR; Package: SOD323; Price: 0
footprint SOD323 (SOD323 diode)
pins: 1 C, 2 A

## ZD-BZX384-C3V3
designator ZD?, comment BZX384-C3V3
Zener diode 300mW SOD80C; Manufacturer: NXP; Comment2: 5% 300mW; Sort: 420; Tech: SMDR; Package: SOD323; Manufacturer No: BZX384-C3V3; Price: 0
footprint SOD323 (SOD323 diode)
pins: 1 C, 2 A

## ZD-BZX384-C3V6
designator ZD?, comment BZX384-C3V6
Zener diode 300mW SOD323; Manufacturer: NXP; Comment2: 5% 300mW; Sort: 420; Tech: SMDR; Package: SOD323; Manufacturer No: BZX384-C3V6; Price: 0
footprint SOD323 (SOD323 diode)
pins: 1 C, 2 A

## ZD-BZX384-C5V1
designator ZD?, comment BZX384-C5V1
Zener diode 300mW SOD323; Manufacturer: NXP; Comment2: 5% 300mW; Sort: 420; Tech: SMDR; Package: SOD323; Manufacturer No: BZX384-C5V1; Price: 0
footprint SOD323 (SOD323 diode)
pins: 1 C, 2 A

## ZD-BZX384-C6V2
designator ZD?, comment BZX384-C6V2
Zener diode 300mW SOD323; Manufacturer: NXP; Comment2: 5% 300mW; Sort: 420; Tech: SMDR; Package: SOD323; Manufacturer No: BZX384-C6V2; Price: 0
footprint SOD323 (SOD323 diode)
pins: 1 C, 2 A

## ZD-BZX384-C9V1
designator ZD?, comment BZX384-C9V1
Zener diode 300mW SOD80C; Manufacturer: NXP; Comment2: 5% 300mW; Sort: 420; Tech: SMDR; Package: SOD323; Manufacturer No: BZX384-C9V1; Price: 0
footprint SOD323 (SOD323 diode)
pins: 1 C, 2 A

## ZD-SM6HT24A
designator ZD?, comment SM6HT24A
High performance Transil 600W unidirectional; Manufacturer: STM; Comment2: 24Vnom; Sort: 410; Tech: SMDR; Package: Diode SMB; Manufacturer No: SM6HT24A; Price: 0
signal-integrity model Model Name (Model Description)
footprint DSMB-N (DIODE SMB normal)
pins: 1 C, 2 A

## ZD-SMCJ13A
designator ZD?, comment SMCJ13A
Transient Suppresion Unidirectional diode; Manufacturer: Fairchild, Farnell; Comment2: 13V Vbr14.4V 1500W; Sort: 420; Tech: SMDR; Package: DO-214 (SMC); Manufacturer No: SMCJ13A; Price: 0.3
footprint DSMC-N (DIODE SMC normal DO-214AB)
pins: 1 C, 2 A

## ZD-ZENER
designator ZD?
General purpose zener diode; Sort: 420; Tech: SMDR; Price: 0
pins: 1 C, 2 A

## ZD-ZM4734A
designator ZD?, comment ZM4734A
Zener diode 5V6 1W  melf; Manufacturer: Vishay; Comment2: 5V6 1W 5%; Sort: 420; Tech: SMDR; Package: Diode MELF; Manufacturer No: ZM4734A; Price: 0
footprint D-MELFW (Diode MELF glass wave solder)
footprint D-MELFW (Diode MELF glass wave solder)
pins: 1 C, 2 A